# Altium footprint library 很多常用的封装带3D.PcbLib: 48 footprints (part 2 of 3)
Each footprint in its own frame and in the unit in brackets; x right, y up, seen from the top. Pads: shape width x height; smd on the part's side, far side on the other; paste and mask are expansions set on the pad; w line width, h text height; cw(c..) or ccw(c..) is an arc to the next point about the centre after c.
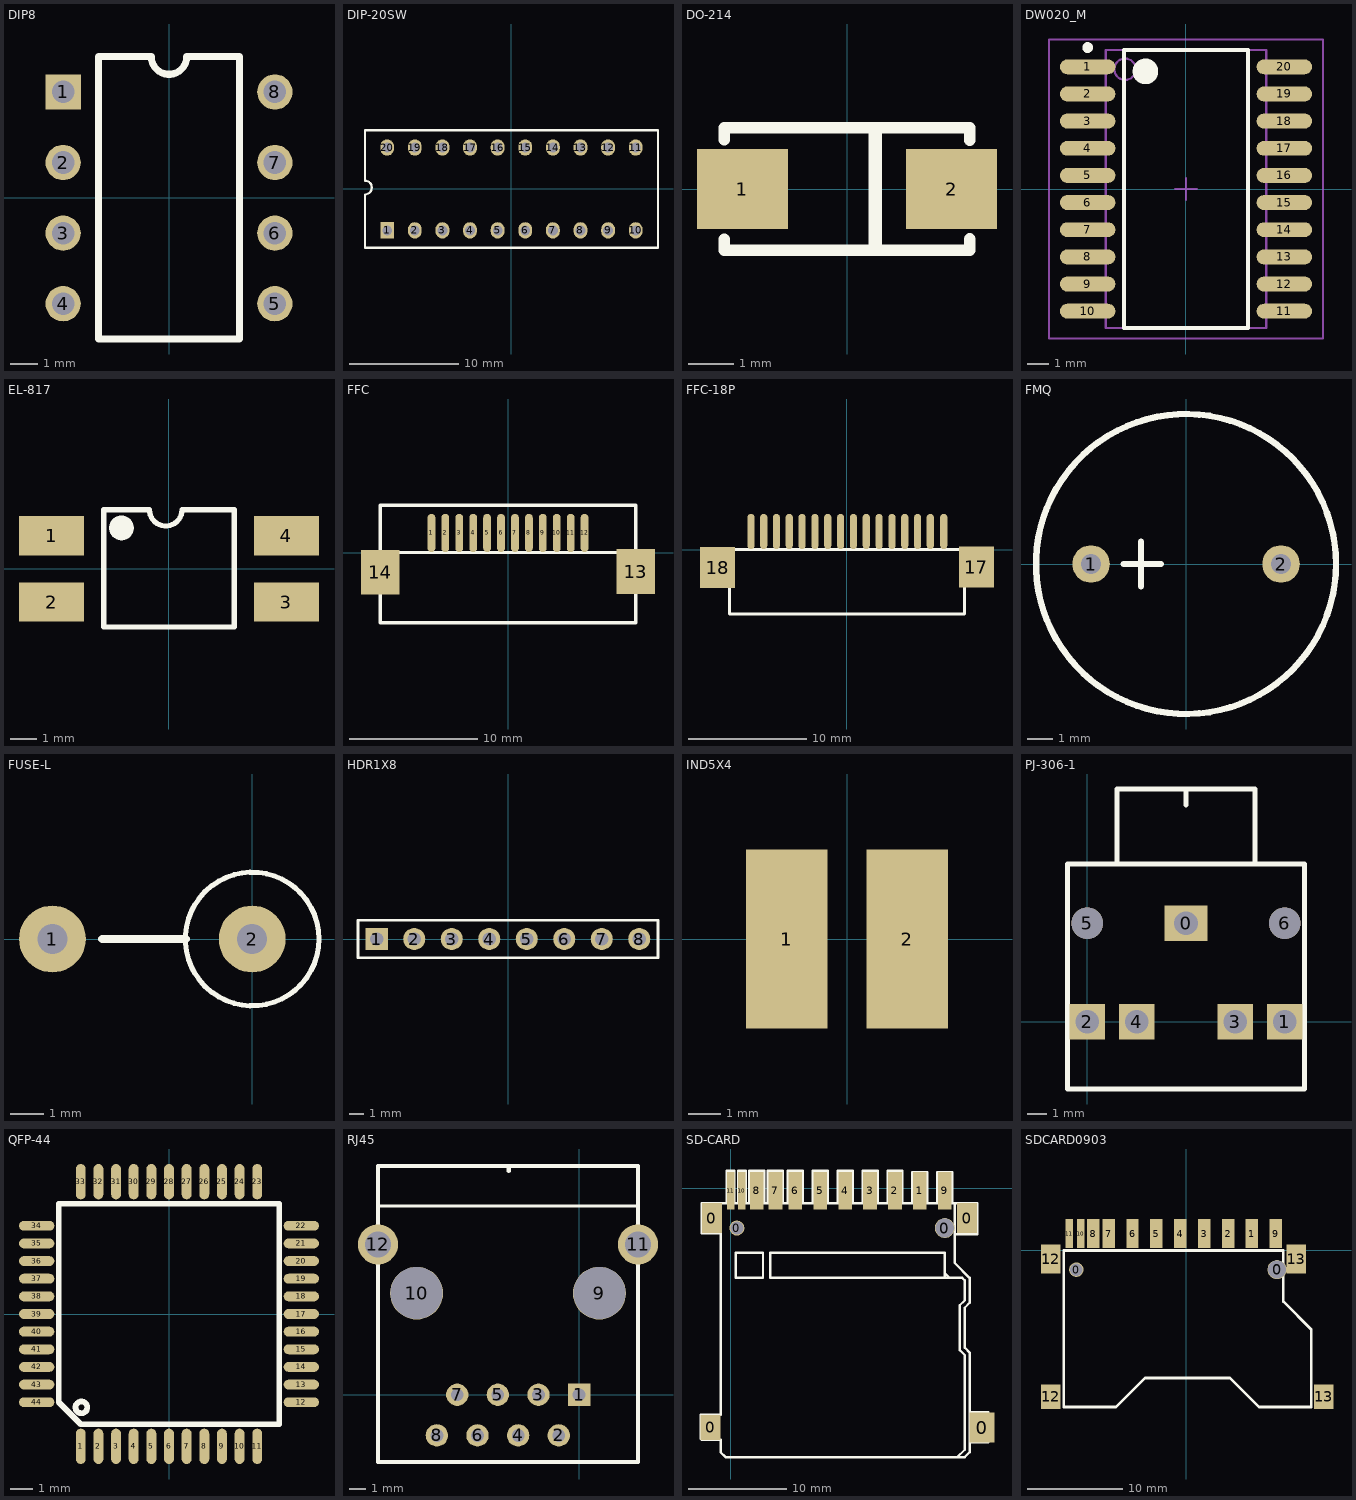
[diagram p1: the footprints below, top view; thin cyan lines are the x and y axes]

## DIP8 [mil]
pads (8):
  rect 50x50 hole 32: 1(-150,150)
  round 50 hole 32: 2(-150,50) 3(-150,-50) 4(-150,-150) 5(150,-150) 6(150,-50) 7(150,50) 8(150,150)
Top Overlay:
  lines w10: -100,-200 100,-200 100,200 25,200 cw(c0,200) -25,200 -100,200 -100,-200
3D body: height 188.19, standoff -109.84, extent -154.84,-213.92 155,216

## DIP-20SW [mm] "DIP; 16 Leads; Row Spacing 7.62 mm; Pitch 2.54 mm"
pads (20):
  rect 1.27x1.5 hole 0.9: 1(-11.43,-3.81)
  oval 1.27x1.5 hole 0.9: 2(-8.89,-3.81) 3(-6.35,-3.81) 4(-3.81,-3.81) 5(-1.27,-3.81) 6(1.27,-3.81) 7(3.81,-3.81) 8(6.35,-3.81) 9(8.89,-3.81) 10(11.43,-3.81) 11(11.43,3.81) 12(8.89,3.81) 13(6.35,3.81) 14(3.81,3.81) 15(1.27,3.81) 16(-1.27,3.81) 17(-3.81,3.81) 18(-6.35,3.81) 19(-8.89,3.81) 20(-11.43,3.81)
Top Overlay:
  lines w0.2: -13.48,-5.4 -13.48,-0.51 ccw(c-13.48,0.125) -13.48,0.76 ; -13.48,0.79 -13.48,5.39 ; 13.48,-5.4 13.48,5.39
  lines w0.203: -13.48,-5.4 13.462,-5.4 ; -13.48,5.39 13.462,5.39
3D body: height 8.71, standoff -3.99, extent -13.516,-6.449 13.364,4.851

## DO-214 [mm]
height 2.7
pads (2):
  rect 2x1.75 smd: 1(-2.3,0) 2(2.3,0)
Top Overlay:
  lines w0.254: -2.7,-1.105 -2.7,-1.35 2.7,-1.35 2.7,-1.1 ; -2.7,1.08 -2.7,1.35 2.695,1.35 ; 2.7,1.075 2.7,1.35
  lines w0.3: 0.62,-1.3 0.62,1.3
3D body: height 2.12, standoff -0.02, extent -2.498,-1.342 2.608,1.325

## DW020_M [mm] "SOIC, 20-Leads, Body 12.8x7.5mm, Pitch 1.27mm, IPC Low Density"
height 2.65
pads (20):
  oval 2.6x0.7 smd: 1(-4.6,5.715) 2(-4.6,4.445) 3(-4.6,3.175) 4(-4.6,1.905) 5(-4.6,0.635) 6(-4.6,-0.635) 7(-4.6,-1.905) 8(-4.6,-3.175) 9(-4.6,-4.445) 10(-4.6,-5.715) 11(4.6,-5.715) 12(4.6,-4.445) 13(4.6,-3.175) 14(4.6,-1.905) 15(4.6,-0.635) 16(4.6,0.635) 17(4.6,1.905) 18(4.6,3.175) 19(4.6,4.445) 20(4.6,5.715)
Top Overlay:
  circle w0.6: c-1.9,5.5 r0.3
  circle w0.25: c-4.6,6.615 r0.125
  lines w0.2: -2.9,-6.5 -2.9,6.5 2.9,6.5 2.9,-6.5 -2.9,-6.5
Mechanical 13:
  circle w0.1: c-2.85,5.6 r0.5
  lines w0.1: -3.75,-6.5 -3.75,6.5 3.75,6.5 3.75,-6.5 -3.75,-6.5
Mechanical 15:
  lines w0.1: -0.5,0 0.5,0 ; 0,-0.5 0,0.5 ; -6.4,-7 -6.4,7 6.4,7 6.4,-7 -6.4,-7
3D body: height 2.65, standoff 0, extent -5.105,-6.4 5.195,6.4

## EL-817 [mm]
pads (4):
  rect 2.5x1.5 smd: 1(-4.5,1.27) 2(-4.5,-1.27) 3(4.5,-1.27) 4(4.5,1.27)
Top Overlay:
  circle w0.5: c-1.824,1.57 r0.224
  lines w0.2: -0.8,2.27 -2.5,2.27 -2.5,-2.23 2.5,-2.23 2.5,2.27 0.5,2.27 cw(c-0.125,2.27) -0.75,2.27
3D body: height 3.75, standoff -0.01, extent -5.02,-2.299 5.14,2.299

## FFC [mil] "12P排线插座"
pads (14):
  oval 24x118.11 smd: 1(-236.22,60.5) 2(-193.27,60.5) 3(-150.32,60.5) 4(-107.37,60.5) 5(-64.42,60.5) 6(-21.48,60.5) 7(21.47,60.5) 8(64.42,60.5) 9(107.37,60.5) 10(150.32,60.5) 11(193.27,60.5) 12(236.22,60.5)
  rect 118.11x137.8 smd: 13(393.7,-58.5) 14(-393.7,-60.5)
Top Overlay:
  lines w10: -393.7,0.33 393.7,0.33 ; -393.7,-216.2 393.7,-216.2 393.7,145.5 -393.7,145.5 -393.7,-216.2

## FFC-18P [mil] "18P_FFC"
pads (18):
  oval 24x118.11 smd: 1(-321.22,60.5) 2(-278.7,60.5) 3(-236.22,60.5) 4(-193.27,60.5) 5(-150.32,60.5) 6(-107.37,60.5) 7(-64.42,60.5) 8(-21.47,60.5) 9(21.47,60.5) 10(64.42,60.5) 11(107.37,60.5) 12(150.32,60.5) 13(193.27,60.5) 14(236.22,60.5) 15(278.78,60.5) 16(323.78,60.5)
  rect 118.11x137.8 smd: 17(433.07,-58.5) 18(-433.07,-60.5)
Top Overlay:
  lines w10: -393.7,-216.2 -393.7,0.33 393.7,0.33 393.7,-216.2 -393.7,-216.2

## FMQ [mm]
pads (2):
  round 1.5 hole 0.8: 1(-3.8,0) 2(3.8,0)
Top Overlay:
  circle w0.254: c-0.001,0 r6.001
  lines w0.254: -2.5,0 -1,0 ; -1.8,-0.9 -1.8,0.9

## FUSE-L [mil]
height 511.81
pads (2):
  round 79 hole 35.43: 1(-236.22,0) 2(0,0)
Top Overlay:
  circle w6: c0,0 r79
  lines w10: -177.17,0 -78.74,0
3D body: height 545.04, standoff -77.66, extent -249.02,-74.21 77.68,83.27

## HDR1X8 [mm] "Connector; Header; 8 Position"
pads (8):
  rect 1.5x1.5 hole 0.9: 1(-8.89,0)
  round 1.5 hole 0.9: 2(-6.35,0) 3(-3.81,0) 4(-1.27,0) 5(1.27,0) 6(3.81,0) 7(6.35,0) 8(8.89,0)
Top Overlay:
  lines w0.2: -10.16,-1.27 -10.16,1.27 10.16,1.27 10.16,-1.27 -10.16,-1.27
3D body: height 0.7, standoff -10.9, extent -10.16,-1.27 10.16,1.27

## IND5X4 [mm]
height 4.5
pads (2):
  rect 2.5x5.5 smd: 1(-1.85,0) 2(1.85,0)
3D body: height 4.5, standoff -0.01, extent -2.857,-2.6 2.857,2.6

## PJ-306-1 [mm]
pads (7):
  rect 2.2x1.8 hole 1.2: 0(5,5)
  rect 1.8x1.8 hole 1.2: 1(10,0) 2(0,0) 3(7.5,0) 4(2.5,0)
  round 1.6 hole 1.6 unplated: 5(0,5) 6(10,5)
Top Overlay:
  lines w0.254: 1.5,8 1.5,11.8 8.4,11.8 ; 5,11 5,11.8 ; 8.5,8 8.5,11.8 ; -1,-3.4 -1,8 11,8 11,-3.4 -1,-3.4
3D body: height 3.2, standoff -10.8, extent -1.041,-3.689 11.059,11.411

## QFP-44 [mm]
pads (44):
  oval 0.45x1.6 smd: 1(-4,-6) 2(-3.2,-6) 3(-2.4,-6) 4(-1.6,-6) 5(-0.8,-6) 6(0,-6) 7(0.8,-6) 8(1.6,-6) 9(2.4,-6) 10(3.2,-6) 11(4,-6) 23(4,6) 24(3.2,6) 25(2.4,6) 26(1.6,6) 27(0.8,6) 28(0,6) 29(-0.8,6) 30(-1.6,6) 31(-2.4,6) 32(-3.2,6) 33(-4,6)
  oval 1.6x0.45 smd: 12(6,-4) 13(6,-3.2) 14(6,-2.4) 15(6,-1.6) 16(6,-0.8) 17(6,0) 18(6,0.8) 19(6,1.6) 20(6,2.4) 21(6,3.2) 22(6,4) 34(-6,4) 35(-6,3.2) 36(-6,2.4) 37(-6,1.6) 38(-6,0.8) 39(-6,0) 40(-6,-0.8) 41(-6,-1.6) 42(-6,-2.4) 43(-6,-3.2) 44(-6,-4)
Top Overlay:
  circle w0.254: c-3.972,-4.232 r0.267
  lines w0.254: -5,-4 -4,-5 5,-5 5,5 -5,5 -5,-4
3D body: height 1.1, standoff -0.01, extent -6.006,-6 5.994,6

## RJ45 [mil]
pads (12):
  rect 55x55 hole 31.5: 1(0,0)
  round 55 hole 31.5: 2(-50,-100) 3(-100,0) 4(-150,-100) 5(-200,0) 6(-250,-100) 7(-300,0) 8(-350,-100)
  round 130 hole 127.95 unplated: 9(50,250) 10(-400,250)
  round 98.42 hole 62.99: 11(145,370) 12(-495,370)
Top Overlay:
  lines w8: -488.19,464.57 141.73,464.57
  lines w10: -495,-165.35 144.65,-165.35 145,-165 145,370 145,562.99 -495,562.99 -495,370 -495,-165 ; -173.23,551.18 -173.23,559.06
3D body: height 127.85, standoff -555.12, extent -490,-172.17 139.92,556.17

## SD-CARD [mil] "SD插座1"
pads (17):
  rect 80x100 smd: 0(-80,-960)
  rect 80x120 smd: 0(-75,-120) 0(950,-120)
  round 60 hole 52: 0(25,-160)
  round 80 hole 75: 0(860,-160)
  rect 100x120 smd: 0(1009.63,-960.84)
  rect 55x150 smd: 1(760,-10) 2(660,-10) 3(560,-10) 4(460,-10) 5(360,-10) 6(260,-10) 7(180,-10) 8(105,-10) 9(860,-10)
  rect 30x150 smd: 10(45,-10) 11(0,-10)
Top Overlay:
  lines w10: -15,-60 -15,70 15,70 15,-60 -40,-60 -115,-60 -115,-180 -40,-180 -40,-910 -120,-910 -120,-1005 -115,-1010 -40,-1010 -40,-1060 -20,-1080 -10,-1080 940,-1080 960,-1060 960,-660 940,-640 940,-480 960,-460 960,-450 960,-380 960,-360 900,-300 900,-70 900,-60 ; 10,-60 900,-60 ; 30,-60 30,70 60,70 60,-60 ; 75,-55 75,70 135,70 135,-55 ; 110,-360 130,-360 130,-260 20,-260 20,-360 120,-360 ; 150,-55 150,70 210,70 210,-55 ; 230,-55 230,70 290,70 290,-55 ; 330,-55 330,70 390,70 390,-55 ; 430,-55 430,70 490,70 490,-55 ; 530,-55 530,70 590,70 590,-55 ; 630,-55 630,70 690,70 690,-55 ; 730,-60 730,65 790,65 790,-60 ; 830,-60 830,65 890,65 890,-60 ; 860,-340 880,-360 ; 900,-185 990,-185 990,-60 900,-60 ; 910,-1080 940,-1050 940,-680 940,-670 920,-650 920,-470 940,-450 940,-370 930,-360 860,-360 ; 960,-1020 1035,-1020 ; 960,-900 1035,-900 ; 860,-360 160,-360 160,-260 860,-260 860,-350 860,-360

## SDCARD0903 [mm] "SD卡插座0903"
pads (17):
  round 1.524 hole 1.321: 0(-11.5,-2)
  round 2 hole 1.9: 0(9.5,-2)
  rect 1.3x3 smd: 1(6.875,1.778) 2(4.375,1.778) 3(1.875,1.778) 4(-0.625,1.778) 5(-3.125,1.778) 6(-5.625,1.778) 7(-8.125,1.778) 8(-9.75,1.778) 9(9.375,1.778)
  rect 0.762x3 smd: 10(-11.05,1.778) 11(-12.25,1.778)
  rect 2.032x2.54 smd: 12(-14.2,-15.3) 13(14.4,-15.3)
  rect 2.032x3.048 smd: 12(-14.2,-0.9) 13(11.5,-0.9)
Top Overlay:
  lines w0.279: -12.827,-16.383 -12.827,0 10.16,0 10.16,-5.334 13.081,-8.255 13.081,-16.383 7.62,-16.383 4.572,-13.335 0,-13.335 -4.318,-13.335 -7.366,-16.383 -12.827,-16.383